# Altium footprint library 3008TR.PcbLib: 1 footprints
Each footprint in its own frame and in the unit in brackets; x right, y up, seen from the top. Pads: shape width x height; smd on the part's side, far side on the other; paste and mask are expansions set on the pad; w line width, h text height; cw(c..) or ccw(c..) is an arc to the next point about the centre after c.
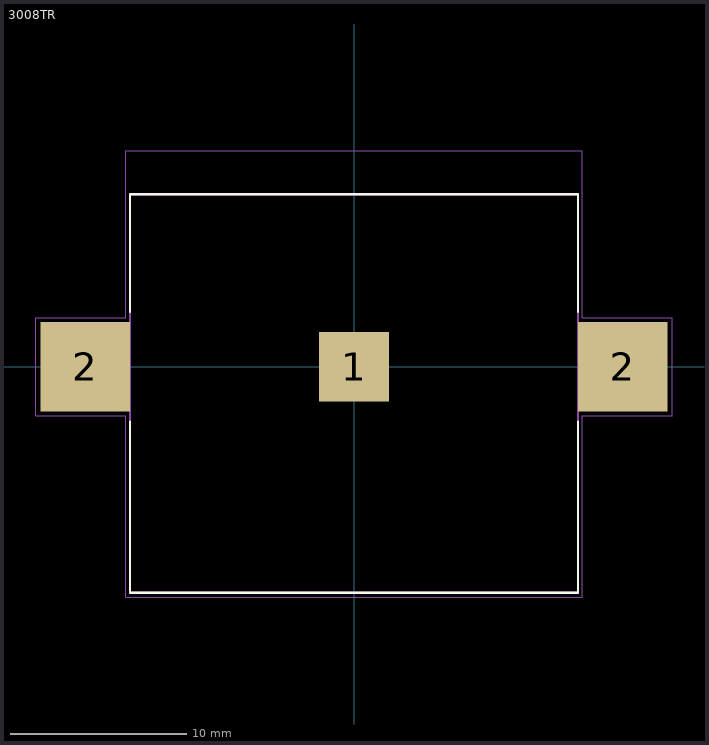
[diagram p0: the footprint, top view; thin cyan lines are the x and y axes]

## 3008TR [mm]
pads (3):
  rect 3.96x3.96 smd paste-3: 1(0,0)
  rect 5.08x5.08 smd: 2(-15.24,0) 2(15.24,0)
Top Overlay:
  lines w0.127: -12.7,-3.101 -12.7,-12.82 12.7,-12.82 12.7,-3.111 ; -12.7,3.101 -12.7,9.79 12.7,9.79 12.7,3.101
Top 3D Body:
  lines w0.127: -12.7,-12.82 -12.7,9.79 12.7,9.79 12.7,-12.82 -12.7,-12.82
Top Courtyard:
  lines w0.05: -18.05,-2.79 -12.95,-2.79 -12.95,-13.07 12.95,-13.07 12.95,-2.79 18.05,-2.79 18.05,2.79 12.95,2.79 12.95,12.25 -12.95,12.25 -12.95,2.79 -18.05,2.79 -18.05,-2.79
3D body "3008TR--3DModel-STEP-630548.STEP": height 5.85, standoff 0.01, extent -17.755,-12.954 17.755,9.652